# EAGLE library part XFMR-10BASET-1 (library Digilent)
Ethernet isolation transformer
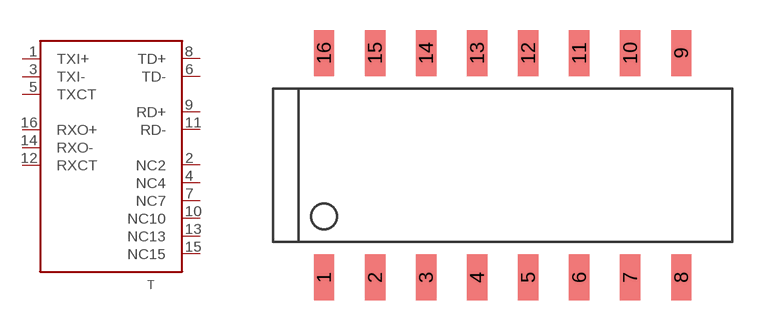
[diagram p53: symbol with the pads of PULSE-SMT4; footprint PULSE-SMT4]

Designator prefix T

## XFMR-10BASET-1  [PULSE-SMT4]
1  TXI+
2  NC2
3  TXI-
4  NC4
5  TXCT
6  TD-
7  NC7
8  TD+
9  RD+
10  NC10
11  RD-
12  RXCT
13  NC13
14  RXO-
15  NC15
16  RXO+

## Footprint PULSE-SMT4 (pad centres in mm)
smd 1.016 x 2.286: 1 -8.89,-5.588; 2 -6.35,-5.588; 3 -3.81,-5.588; 4 -1.27,-5.588; 5 1.27,-5.588; 6 3.81,-5.588; 7 6.35,-5.588; 8 8.89,-5.588; 9 8.89,5.588; 10 6.35,5.588; 11 3.81,5.588; 12 1.27,5.588; 13 -1.27,5.588; 14 -3.81,5.588; 15 -6.35,5.588; 16 -8.89,5.588